# Altium footprint library FootPrintLib_6.PcbLib: 588 footprints (part 17 of 37)
Each footprint in its own frame and in the unit in brackets; x right, y up, seen from the top. Pads: shape width x height; smd on the part's side, far side on the other; paste and mask are expansions set on the pad; w line width, h text height; cw(c..) or ccw(c..) is an arc to the next point about the centre after c.
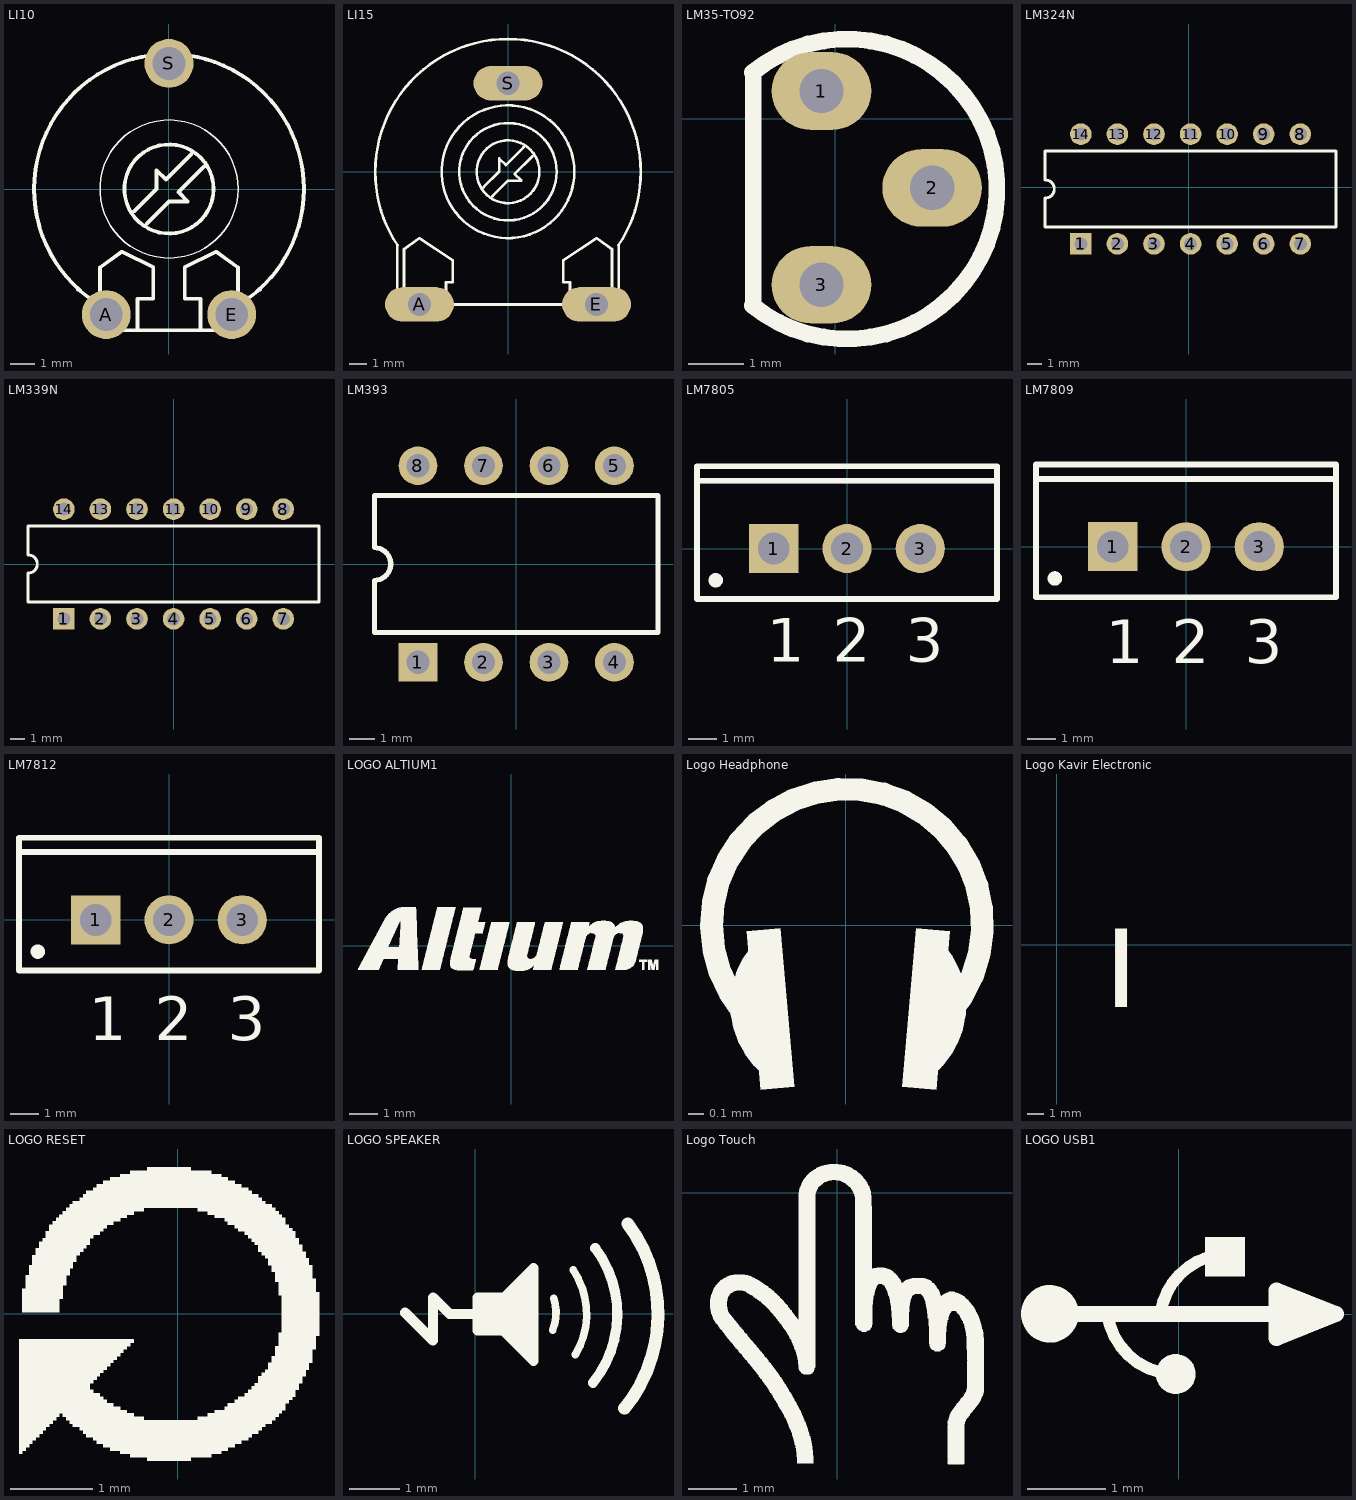
[diagram p16: the footprints below, top view; thin cyan lines are the x and y axes]

## LI10 [mil]
pads (3):
  round 78 hole 52: A(-100,-200) E(100,-200) S(0,200)
Top Overlay:
  circle w2: c0,0 r110
  circle w6: c0,0 r71
  lines w6: -145,-160 -125,-175 -125,-225 -110,-225 ; -141.93,-161.5 cw(c0,0) -215,0 cw(c0,0) -57.01,207.3 ; -58.36,206.92 cw(c0.01,0) 0,215 cw(c-0.01,0) 59.78,206.52 ; -55,-35 -20,0 -20,30 -5,15 35,55 ; -35,-55 0,-20 30,-20 15,-5 55,35 ; 57.54,207.16 cw(c0,0) 215,0 cw(c0,0) 140.38,-162.84 ; 145,-160 125,-175 125,-225 110,-225 ; -110,-225 -50,-225 ; -110,-225 -110,-145 -110,-125 -75,-100 -25,-125 -25,-175 -50,-175 -50,-225 ; -50,-225 50,-225 ; 50,-225 110,-225 ; 50,-225 50,-175 25,-175 25,-125 75,-100 110,-125 110,-145 110,-225

## LI15 [mil]
pads (3):
  oval 156x78 hole 52: A(-200,-300) E(200,-300) S(0,200)
Top Overlay:
  circle w6: c0,0 r71
  circle w6: c0,0 r110
  circle w6: c0,0 r150
  lines w6: -250,-165 -250,-265 -250,-300 -235,-300 ; -249.62,-166.41 cw(c0,0) -300,0 cw(c0,0) 300,0 cw(c0,0) 249.62,-166.41 ; -55,-35 -20,0 -20,30 -5,15 35,55 ; -35,-55 0,-20 30,-20 15,-5 55,35 ; 250,-165 250,-260 250,-300 235,-300 ; -235,-300 -235,-250 -235,-175 -200,-150 -125,-200 -125,-250 -140,-250 -140,-300 ; -235,-300 -140,-300 ; -140,-300 140,-300 ; 140,-300 140,-250 125,-250 125,-200 200,-150 235,-175 235,-250 235,-300 ; 140,-300 235,-300

## LM35-TO92 [mm]
pads (3):
  oval 1.8x1.4 hole 0.8: 1(-0.25,0.5) 2(1.75,-1.25) 3(-0.25,-3)
Top Overlay:
  lines w0.305: -1.493,-3.376 ccw(c0.212,-1.27) -1.493,0.836 ; -1.482,-3.387 -1.482,0.847

## LM324N [mm]
pads (14):
  rect 1.5x1.5 hole 0.9: 1(-7.493,-3.937)
  round 1.5 hole 0.9: 2(-4.953,-3.937) 3(-2.413,-3.937) 4(0.127,-3.937) 5(2.667,-3.937) 6(5.207,-3.937) 7(7.747,-3.937) 8(7.747,3.683) 9(5.207,3.683) 10(2.667,3.683) 11(0.127,3.683) 12(-2.413,3.683) 13(-4.953,3.683) 14(-7.493,3.683)
Top Overlay:
  lines w0.2: -9.973,-2.777 10.227,-2.777 10.227,2.523 -9.973,2.523 -9.973,0.508 cw(c-9.973,-0.127) -9.973,-0.762 -9.973,-2.777

## LM339N [mm]
pads (14):
  rect 1.5x1.5 hole 0.9: 1(-7.62,-3.81)
  round 1.5 hole 0.9: 2(-5.08,-3.81) 3(-2.54,-3.81) 4(0,-3.81) 5(2.54,-3.81) 6(5.08,-3.81) 7(7.62,-3.81) 8(7.62,3.81) 9(5.08,3.81) 10(2.54,3.81) 11(0,3.81) 12(-2.54,3.81) 13(-5.08,3.81) 14(-7.62,3.81)
Top Overlay:
  lines w0.2: -10.1,-2.65 -10.1,-0.635 ccw(c-10.1,0) -10.1,0.635 -10.1,2.65 10.1,2.65 10.1,-2.65 -10.1,-2.65

## LM393 [mm]
pads (8):
  rect 1.5x1.5 hole 0.9: 1(-3.81,-3.81)
  round 1.5 hole 0.9: 2(-1.27,-3.81) 3(1.27,-3.81) 4(3.81,-3.81) 5(3.81,3.81) 6(1.27,3.81) 7(-1.27,3.81) 8(-3.81,3.81)
Top Overlay:
  lines w0.2: -5.5,-2.65 -5.5,-0.635 ccw(c-5.5,0) -5.5,0.635 -5.5,2.65 5.5,2.65 5.5,-2.65 -5.5,-2.65

## LM7805 [mm]
pads (3):
  rect 1.7x1.7 hole 1.1: 1(-2.54,0)
  round 1.7 hole 1.1: 2(0,0) 3(2.54,0)
Top Overlay:
  circle w0.25: c-4.55,-1.1 r0.125
  lines w0.2: -5.2,2.35 5.2,2.35 ; -5.2,-1.75 5.2,-1.75 5.2,2.85 -5.2,2.85 -5.2,-1.75
  text "3" at 2.04,-3.921 h1.5
  text "2" at -0.5,-3.921 h1.5
  text "1" at -2.79,-3.921 h1.5
Mechanical 13:
  lines w0.1: -5.2,2.3 5.2,2.3 ; -5.2,-1.75 -5.2,2.85 5.2,2.85 5.2,-1.75 -5.2,-1.75
Mechanical 15:
  lines w0.1: -0.5,0 0.5,0 ; 0,-0.5 0,0.5
3D body: height 13.5, standoff 3.5, extent -5.25,-1.8 5.25,2.9
3D body: height 19.7, standoff 13.5, extent -5.2,2.3 5.2,2.849

## LM7809 [mm]
pads (3):
  rect 1.7x1.7 hole 1.1: 1(-2.54,0)
  round 1.7 hole 1.1: 2(0,0) 3(2.54,0)
Top Overlay:
  circle w0.25: c-4.55,-1.1 r0.125
  lines w0.2: -5.2,2.35 5.2,2.35 ; -5.2,-1.75 -5.2,2.85 5.2,2.85 5.2,-1.75 -5.2,-1.75
  text "3" at 2.04,-4.048 h1.5
  text "2" at -0.5,-4.048 h1.5
  text "1" at -2.79,-4.048 h1.5
Mechanical 13:
  lines w0.1: -5.2,2.3 5.2,2.3 ; -5.2,-1.75 5.2,-1.75 5.2,2.85 -5.2,2.85 -5.2,-1.75
Mechanical 15:
  lines w0.1: -0.5,0 0.5,0 ; 0,-0.5 0,0.5
3D body: height 19.7, standoff 13.5, extent -5.2,2.3 5.2,2.849
3D body: height 13.5, standoff 3.5, extent -5.25,-1.8 5.25,2.9

## LM7812 [mm]
pads (3):
  rect 1.7x1.7 hole 1.1: 1(-2.54,0)
  round 1.7 hole 1.1: 2(0,0) 3(2.54,0)
Top Overlay:
  circle w0.25: c-4.55,-1.1 r0.125
  lines w0.2: -5.2,2.35 5.2,2.35 ; -5.2,-1.75 5.2,-1.75 5.2,2.85 -5.2,2.85 -5.2,-1.75
  text "3" at 2.04,-4.175 h1.5
  text "2" at -0.5,-4.175 h1.5
  text "1" at -2.79,-4.175 h1.5
Mechanical 13:
  lines w0.1: -5.2,2.3 5.2,2.3 ; -5.2,-1.75 -5.2,2.85 5.2,2.85 5.2,-1.75 -5.2,-1.75
Mechanical 15:
  lines w0.1: -0.5,0 0.5,0 ; 0,-0.5 0,0.5
3D body: height 13.5, standoff 3.5, extent -5.25,-1.8 5.25,2.9
3D body: height 19.7, standoff 13.5, extent -5.2,2.3 5.2,2.849

## LOGO ALTIUM1 [mm]
Top Overlay:
  drawing of 8 lines, arcs and shapes, not listed

## Logo Headphone [mm]
Top Overlay:
  region: -0.436,-0.018 -0.663,-0.038 -0.571,-1.101 -0.343,-1.081
  region: 0.376,-1.081 0.604,-1.101 0.697,-0.038 0.469,-0.018
  lines w0.152: -0.692,-0.567 cw(c0.008,0.005) 0.686,-0.594
  lines w0.203: -0.551,-0.203 ccw(c-0.162,-0.53) -0.474,-0.93 ; 0.508,-0.93 ccw(c0.195,-0.53) 0.584,-0.203

## Logo Kavir Electronic [mm]
Top Overlay:
  text "l" at 2.769,-5.664 h10

## LOGO RESET [mm]
Top Overlay:
  drawing of 1 lines, arcs and shapes, not listed

## LOGO SPEAKER [mm]
Top Overlay:
  lines w0.152: 1.552,-0.324 ccw(c0.686,0.025) 1.574,0.314 ; 1.964,0.879 cw(c0.66,0) 2.008,-0.81
  lines w0.203: -1.397,0.025 -0.838,-0.533 -0.838,0.33 -0.508,0 0,0 ; 0.102,-0.178 0.508,-0.178 ; 0.102,-0.025 0.559,-0.025 ; 0.102,0.152 0.66,0.152 ; 0.508,-0.33 0.051,-0.33 0.051,0.33 0.559,0.33 0.559,-0.33 1.168,-0.94 1.168,0.914 0.559,0.305 ; 0.914,-0.432 0.914,0.432 ; 0.965,-0.508 0.737,-0.279 0.737,0.279 1.067,0.61 1.067,-0.66 ; 2.359,-1.376 ccw(c0.66,0) 2.406,1.315
  lines w0.254: 2.991,-1.888 ccw(c0.66,0) 3.056,1.805

## Logo Touch [mm]
Top Overlay:
  drawing of 1 lines, arcs and shapes, not listed

## LOGO USB1 [mm] "General USB Logo"
Top Overlay:
  circle w0.254: c-0.037,-0.767 r0.127
  circle w0.381: c-1.646,0.002 r0.178
  region: 0.335,0.987 0.335,0.477 0.845,0.477 0.845,0.987
  lines w0.152: -0.911,0 ccw(c-0.03,0.119) -0.082,-0.768 ; -0.234,0 cw(c0.647,-0.119) 0.377,0.727
  lines w0.203: -1.511,0 2.012,0 ; 1.248,0 2.012,0 ; 2.012,0 1.25,-0.31 1.25,0.3 2.012,0
  lines w0.381: 1.351,0 1.453,0